# Altium footprint library Lib Marius.PcbLib: 393 footprints (part 5 of 25)
Each footprint in its own frame and in the unit in brackets; x right, y up, seen from the top. Pads: shape width x height; smd on the part's side, far side on the other; paste and mask are expansions set on the pad; w line width, h text height; cw(c..) or ccw(c..) is an arc to the next point about the centre after c.
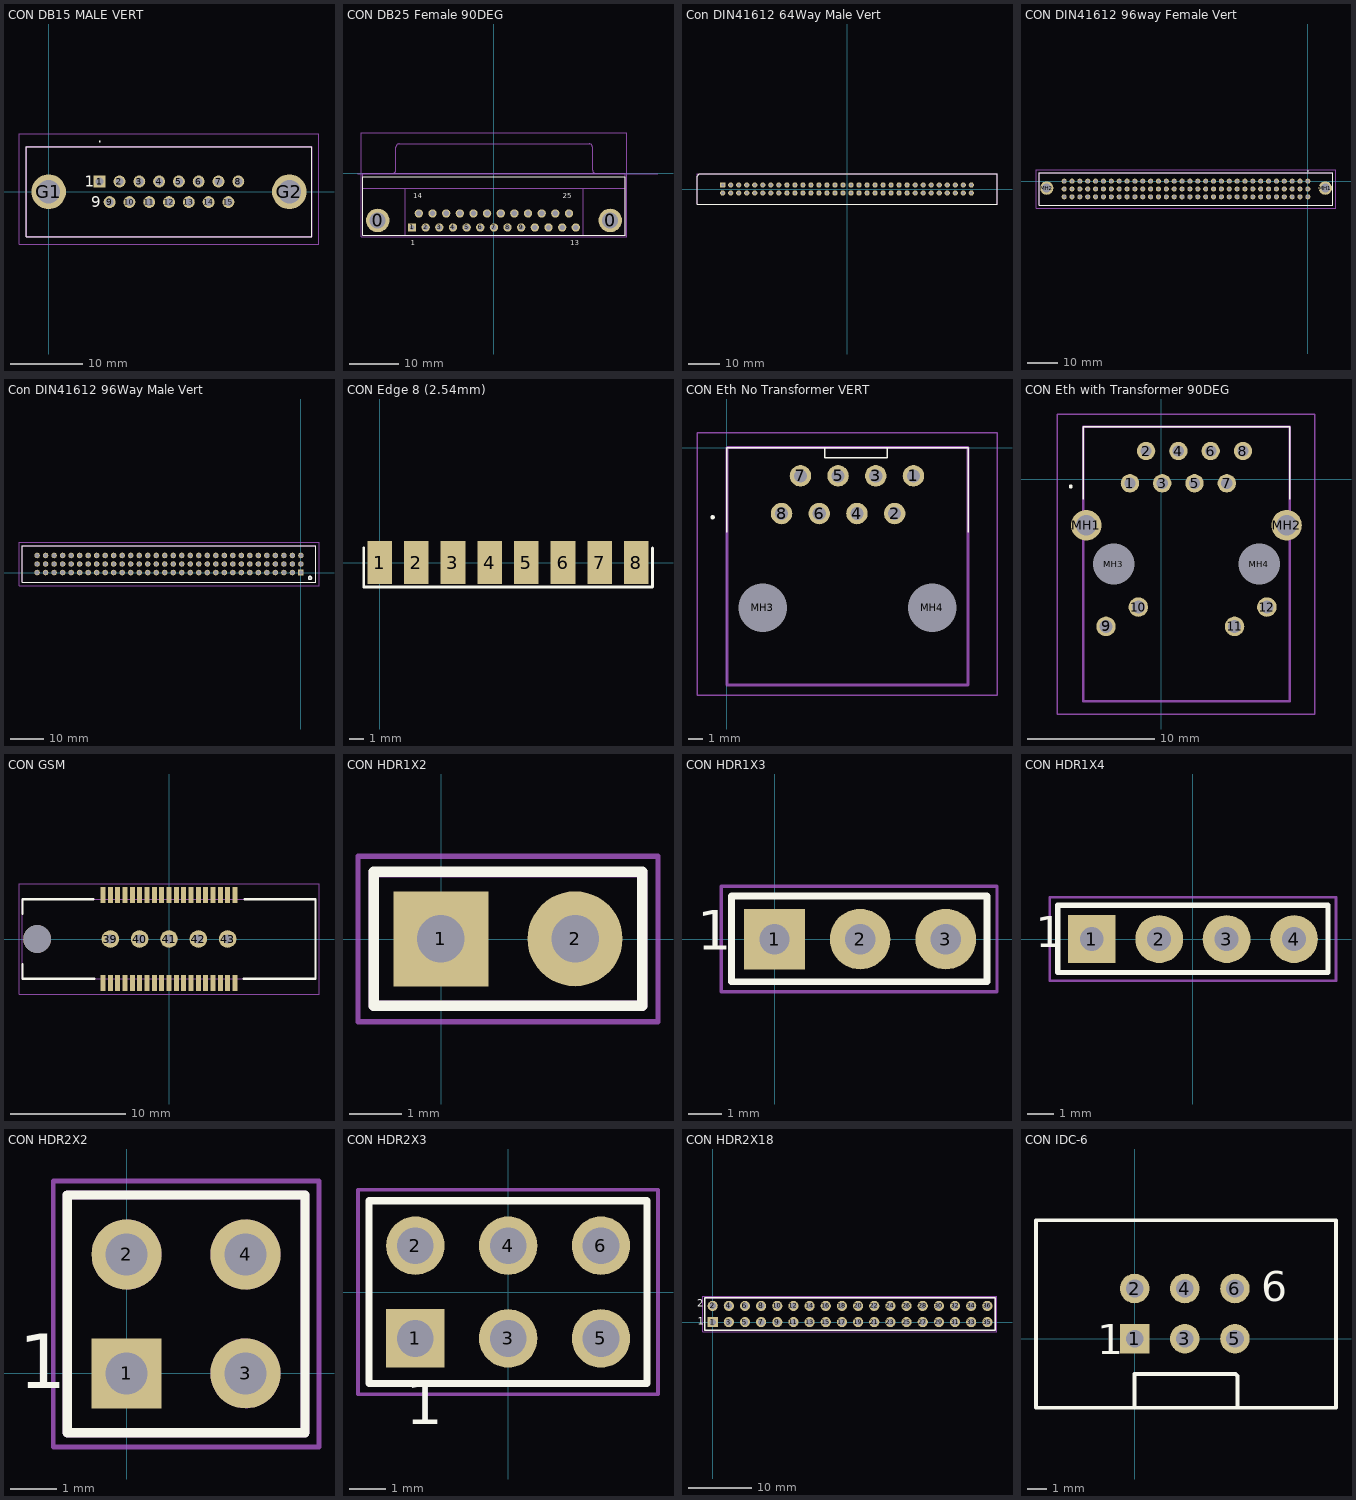
[diagram p4: the footprints below, top view; thin cyan lines are the x and y axes]

## CON DB15 MALE VERT [mm]
pads (17):
  rect 1.65x1.65 hole 1.1: 1(7.06,1.42)
  round 1.65 hole 1.1: 2(9.8,1.42) 3(12.54,1.42) 4(15.28,1.42) 5(18.02,1.42) 6(20.76,1.42) 7(23.5,1.42) 8(26.24,1.42) 9(8.43,-1.42) 10(11.17,-1.42) 11(13.91,-1.42) 12(16.65,-1.42) 13(19.39,-1.42) 14(22.13,-1.42) 15(24.87,-1.42)
  round 4.8 hole 3.2: G1(0,0) G2(33.3,0)
Top Overlay:
  lines w0.1: -3.1,-6.25 36.4,-6.25 36.4,6.25 -3.1,6.25 -3.1,-6.25 ; 7.06,6.92 ccw(c7.06,6.97) 7.06,7.02 ccw(c7.06,6.97) 7.06,6.92
  text "9" at 5.883,-2.119 h1.5
  text "1" at 4.991,0.706 h1.5
Bottom Overlay:
  text "1" at 5.486,0.694 h1.5
  text "9" at 6.849,-2.094 h1.5
Mechanical 13:
  lines w0.2: -3.1,-6.25 36.4,-6.25 36.4,6.25 -3.1,6.25 -3.1,-6.25
Mechanical 15:
  lines w0.1: -4.1,-7.25 37.4,-7.25 37.4,8.02 -4.1,8.02 -4.1,-7.25
3D body "09652616713.stp": height 12.65, standoff -3.75, extent -3.1,-5.865 36.4,6.635

## CON DB25 Female 90DEG [mm] "Connector; D Subminiature; 25 Position; Right Angle; Pitch 1.385 mm"
height 12.93
pads (27):
  round 4.76 hole 3.26: 0(-23.526,-9.5) 0(23.526,-9.5)
  rect 1.69x1.69 hole 1.09: 1(-16.566,-10.92)
  round 1.69 hole 1.09: 2(-13.805,-10.92) 3(-11.044,-10.92) 4(-8.283,-10.92) 5(-5.522,-10.92) 6(-2.761,-10.92) 7(0,-10.92) 8(2.761,-10.92) 9(5.522,-10.92) 10(8.283,-10.92) 11(11.044,-10.92) 12(13.805,-10.92) 13(16.566,-10.92) 14(-15.185,-8.08) 15(-12.424,-8.08) 16(-9.663,-8.08) 17(-6.902,-8.08) 18(-4.141,-8.08) 19(-1.38,-8.08) 20(1.381,-8.08) 21(4.142,-8.08) 22(6.903,-8.08) 23(9.664,-8.08) 24(12.425,-8.08) 25(15.186,-8.08)
Top Overlay:
  lines w0.2: -26.496,-12.5 26.604,-12.5 26.604,-0.7 -26.496,-0.7 -26.496,-12.5
  text "1" at -16.816,-14.475 h1
  text "13" at 15.441,-14.475 h1
  text "14" at -16.31,-4.975 h1
  text "25" at 13.936,-4.975 h1
  text ".Designator" at -16,-16.2 h1
Mechanical 1:
  lines w0.1: -27.5,-0.1 33.2,-0.1
  text "PCB Edge" at 29.3,0.1 h1
Mechanical 13:
  lines w0.1: -26.496,-3 26.604,-3 ; -20.541,0.005 ccw(c-20.541,0.7) -19.846,0.7 -19.846,5.3 ; -19.841,5.305 cw(c-19.146,5.305) -19.146,6 19.254,6 cw(c19.254,5.305) 19.949,5.305 ; -17.946,-12.5 -17.946,-3 ; 18.054,-12.5 18.054,-3 ; 19.954,5.3 19.954,0.7 ccw(c20.649,0.7) 20.649,0.005 ; -26.496,-12.5 -26.496,0 26.604,0 26.604,-12.5 -26.496,-12.5
  text "25" at 13.936,-4.975 h1
  text "14" at -16.31,-4.975 h1
  text "13" at 15.441,-14.475 h1
  text "1" at -16.816,-14.475 h1
Mechanical 15:
  lines w0.1: -26.8,-12.8 26.9,-12.8 26.9,8.2 -26.8,8.2 -26.8,-12.8
3D body "User Library-d-sub25 connector.step": height 12.57, standoff -4.58, extent -26.549,-12.573 26.491,7.927

## Con DIN41612 64Way Male Vert [mm] "64 Position Din41612 Connector Header, Male Pins Through Hole"
height 10.1
pads (64):
  rrect20% 1.65x1.65 hole 1: 1(-39.37,1.27)
  round 1.65 hole 1: 2(-36.83,1.27) 3(-34.29,1.27) 4(-31.75,1.27) 5(-29.21,1.27) 6(-26.67,1.27) 7(-24.13,1.27) 8(-21.59,1.27) 9(-19.05,1.27) 10(-16.51,1.27) 11(-13.97,1.27) 12(-11.43,1.27) 13(-8.89,1.27) 14(-6.35,1.27) 15(-3.81,1.27) 16(-1.27,1.27) 17(1.27,1.27) 18(3.81,1.27) 19(6.35,1.27) 20(8.89,1.27) 21(11.43,1.27) 22(13.97,1.27) 23(16.51,1.27) 24(19.05,1.27) 25(21.59,1.27) 26(24.13,1.27) 27(26.67,1.27) 28(29.21,1.27) 29(31.75,1.27) 30(34.29,1.27) 31(36.83,1.27) 32(39.37,1.27) 33(-39.37,-1.27) 34(-36.83,-1.27) 35(-34.29,-1.27) 36(-31.75,-1.27) 37(-29.21,-1.27) 38(-26.67,-1.27) 39(-24.13,-1.27) 40(-21.59,-1.27) 41(-19.05,-1.27) 42(-16.51,-1.27) 43(-13.97,-1.27) 44(-11.43,-1.27) 45(-8.89,-1.27) 46(-6.35,-1.27) 47(-3.81,-1.27) 48(-1.27,-1.27) 49(1.27,-1.27) 50(3.81,-1.27) 51(6.35,-1.27) 52(8.89,-1.27) 53(11.43,-1.27) 54(13.97,-1.27) 55(16.51,-1.27) 56(19.05,-1.27) 57(21.59,-1.27) 58(24.13,-1.27) 59(26.67,-1.27) 60(29.21,-1.27) 61(31.75,-1.27) 62(34.29,-1.27) 63(36.83,-1.27) 64(39.37,-1.27)
Top Overlay:
  lines w0.05: -47.5,-4.75 47.5,-4.75 47.5,4.75 -46.75,4.75 -47.5,4 -47.5,-4.75
Top Courtyard:
  lines w0.05: -47.5,-4.75 -47.5,4.75 47.5,4.75 47.5,-4.75 -47.5,-4.75
Top Assembly:
  lines w0.05: -47.5,-4.75 -47.5,4.75 47.5,4.75 47.5,-4.75 -47.5,-4.75
3D body "09021101020300_100072267MOD000B.STP": height 12, standoff -4, extent -47.023,-4.25 46.977,4.25

## CON DIN41612 96way Female Vert [mm]
pads (98):
  round 1.65 hole 1.1: A1(0,0) A2(-2.54,0) A3(-5.08,0) A4(-7.62,0) A5(-10.16,0) A6(-12.7,0) A7(-15.24,0) A8(-17.78,0) A9(-20.32,0) A10(-22.86,0) A11(-25.4,0) A12(-27.94,0) A13(-30.48,0) A14(-33.02,0) A15(-35.56,0) A16(-38.1,0) A17(-40.64,0) A18(-43.18,0) A19(-45.72,0) A20(-48.26,0) A21(-50.8,0) A22(-53.34,0) A23(-55.88,0) A24(-58.42,0) A25(-60.96,0) A26(-63.5,0) A27(-66.04,0) A28(-68.58,0) A29(-71.12,0) A30(-73.66,0) A31(-76.2,0) A32(-78.74,0) B1(0,-2.54) B2(-2.54,-2.54) B3(-5.08,-2.54) B4(-7.62,-2.54) B5(-10.16,-2.54) B6(-12.7,-2.54) B7(-15.24,-2.54) B8(-17.78,-2.54) B9(-20.32,-2.54) B10(-22.86,-2.54) B11(-25.4,-2.54) B12(-27.94,-2.54) B13(-30.48,-2.54) B14(-33.02,-2.54) B15(-35.56,-2.54) B16(-38.1,-2.54) B17(-40.64,-2.54) B18(-43.18,-2.54) B19(-45.72,-2.54) B20(-48.26,-2.54) B21(-50.8,-2.54) B22(-53.34,-2.54) B23(-55.88,-2.54) B24(-58.42,-2.54) B25(-60.96,-2.54) B26(-63.5,-2.54) B27(-66.04,-2.54) B28(-68.58,-2.54) B29(-71.12,-2.54) B30(-73.66,-2.54) B31(-76.2,-2.54) B32(-78.74,-2.54) C1(0,-5.08) C2(-2.54,-5.08) C3(-5.08,-5.08) C4(-7.62,-5.08) C5(-10.16,-5.08) C6(-12.7,-5.08) C7(-15.24,-5.08) C8(-17.78,-5.08) C9(-20.32,-5.08) C10(-22.86,-5.08) C11(-25.4,-5.08) C12(-27.94,-5.08) C13(-30.48,-5.08) C14(-33.02,-5.08) C15(-35.56,-5.08) C16(-38.1,-5.08) C17(-40.64,-5.08) C18(-43.18,-5.08) C19(-45.72,-5.08) C20(-48.26,-5.08) C21(-50.8,-5.08) C22(-53.34,-5.08) C23(-55.88,-5.08) C24(-58.42,-5.08) C25(-60.96,-5.08) C26(-63.5,-5.08) C27(-66.04,-5.08) C28(-68.58,-5.08) C29(-71.12,-5.08) C30(-73.66,-5.08) C31(-76.2,-5.08) C32(-78.74,-5.08)
  round 4.35 hole 2.9: MH1(5.63,-2.24) MH2(-84.37,-2.24)
Top Overlay:
  lines w0.1: -86.83,-7.79 8.09,-7.79 8.09,2.71 -86.83,2.71 -86.83,-7.79
  lines w0.2: 0,3.2 ccw(c0,3.3) 0,3.4 ccw(c0,3.3) 0,3.2
Mechanical 13:
  lines w0.2: -86.83,-7.79 8.09,-7.79 8.09,2.71 -86.83,2.71 -86.83,-7.79
Mechanical 15:
  lines w0.1: -87.83,-8.79 9.09,-8.79 9.09,3.71 -87.83,3.71 -87.83,-8.79
3D body "09032962824.stp": height 11.63, standoff -2.87, extent -86.82,-7.787 8.08,2.713

## Con DIN41612 96Way Male Vert [mm]
pads (96):
  rect 1.65x1.65 hole 1.1: A1(0,0)
  round 1.65 hole 1.1: A2(-2.54,0) A3(-5.08,0) A4(-7.62,0) A5(-10.16,0) A6(-12.7,0) A7(-15.24,0) A8(-17.78,0) A9(-20.32,0) A10(-22.86,0) A11(-25.4,0) A12(-27.94,0) A13(-30.48,0) A14(-33.02,0) A15(-35.56,0) A16(-38.1,0) A17(-40.64,0) A18(-43.18,0) A19(-45.72,0) A20(-48.26,0) A21(-50.8,0) A22(-53.34,0) A23(-55.88,0) A24(-58.42,0) A25(-60.96,0) A26(-63.5,0) A27(-66.04,0) A28(-68.58,0) A29(-71.12,0) A30(-73.66,0) A31(-76.2,0) A32(-78.74,0) B1(0,2.54) B2(-2.54,2.54) B3(-5.08,2.54) B4(-7.62,2.54) B5(-10.16,2.54) B6(-12.7,2.54) B7(-15.24,2.54) B8(-17.78,2.54) B9(-20.32,2.54) B10(-22.86,2.54) B11(-25.4,2.54) B12(-27.94,2.54) B13(-30.48,2.54) B14(-33.02,2.54) B15(-35.56,2.54) B16(-38.1,2.54) B17(-40.64,2.54) B18(-43.18,2.54) B19(-45.72,2.54) B20(-48.26,2.54) B21(-50.8,2.54) B22(-53.34,2.54) B23(-55.88,2.54) B24(-58.42,2.54) B25(-60.96,2.54) B26(-63.5,2.54) B27(-66.04,2.54) B28(-68.58,2.54) B29(-71.12,2.54) B30(-73.66,2.54) B31(-76.2,2.54) B32(-78.74,2.54) C1(0,5.08) C2(-2.54,5.08) C3(-5.08,5.08) C4(-7.62,5.08) C5(-10.16,5.08) C6(-12.7,5.08) C7(-15.24,5.08) C8(-17.78,5.08) C9(-20.32,5.08) C10(-22.86,5.08) C11(-25.4,5.08) C12(-27.94,5.08) C13(-30.48,5.08) C14(-33.02,5.08) C15(-35.56,5.08) C16(-38.1,5.08) C17(-40.64,5.08) C18(-43.18,5.08) C19(-45.72,5.08) C20(-48.26,5.08) C21(-50.8,5.08) C22(-53.34,5.08) C23(-55.88,5.08) C24(-58.42,5.08) C25(-60.96,5.08) C26(-63.5,5.08) C27(-66.04,5.08) C28(-68.58,5.08) C29(-71.12,5.08) C30(-73.66,5.08) C31(-76.2,5.08) C32(-78.74,5.08)
Top Overlay:
  circle w0.5: c2.7,-1.6 r0.424
  lines w0.1: -83.12,-2.96 -83.12,8.04 4.38,8.04 4.38,-2.96 -83.12,-2.96
Mechanical 13:
  lines w0.2: -83.12,-2.96 -83.12,8.04 4.38,8.04 4.38,-2.96 -83.12,-2.96
Mechanical 15:
  lines w0.1: -84.12,-3.96 -84.12,9.04 5.38,9.04 5.38,-3.96 -84.12,-3.96
3D body "09031962922.stp": height 13.02, standoff -2.98, extent -86.37,-2.96 7.63,8.04

## CON Edge 8 (2.54mm) [mm] "Edge connector 8 pin, 2.54mm"
pads (8):
  rect 1.7x3 smd: 1(0,0) 2(2.54,0) 3(5.08,0) 4(7.62,0) 5(10.16,0) 6(12.7,0) 7(15.24,0) 8(17.78,0)
Top Overlay:
  lines w0.2: -1.1,1 -1.1,-1.7 18.9,-1.7 18.9,1

## CON Eth No Transformer VERT [mm] "Ethernet Connector"
height 12
pads (10):
  round 1.446 hole 0.89: 1(12.575,-1.91) 2(11.305,-4.45) 3(10.035,-1.91) 4(8.765,-4.45) 5(7.495,-1.91) 6(6.225,-4.45) 7(4.955,-1.91) 8(3.685,-4.45)
  round 1.625 hole 3.25 unplated: MH3(2.415,-10.8) MH4(13.845,-10.8)
Top Overlay:
  lines w0.1: 0,-5.7 0,0 16.26,0 16.26,-5.7 ; 6.4,0 6.6,0 6.6,-0.7 10.8,-0.7 10.8,0
  lines w0.2: -1.015,-4.7 cw(c-0.965,-4.7) -0.915,-4.7 cw(c-0.965,-4.7) -1.015,-4.7
Top 3D Body (Mech10):
  lines w0.2: 0,-16 16.26,-16 16.26,0 0,0 0,-16
Mechanical 15:
  lines w0.1: -2.015,-16.7 -2.015,1 18.205,1 18.205,-16.7 -2.015,-16.7

## CON Eth with Transformer 90DEG [mm] "Ethernet with LED and transformer"
height 12
pads (16):
  round 1.446 hole 0.89: 1(-2.482,-0.31) 2(-1.212,2.23) 3(0.058,-0.31) 4(1.328,2.23) 5(2.598,-0.31) 6(3.868,2.23) 7(5.138,-0.31) 8(6.408,2.23)
  round 1.53 hole 1.02: 9(-4.362,-11.56) 10(-1.822,-10.04) 11(5.748,-11.56) 12(8.288,-10.04)
  round 2.4 hole 1.6: MH1(-5.912,-3.61) MH2(9.838,-3.61)
  round 1.625 hole 3.25 unplated: MH3(-3.752,-6.66) MH4(7.678,-6.66)
Top Overlay:
  lines w0.1: -6.167,-1.56 -6.167,4.14 10.093,4.14 10.093,-1.56
  lines w0.2: -7.182,-0.56 cw(c-7.132,-0.56) -7.082,-0.56 cw(c-7.132,-0.56) -7.182,-0.56
Top 3D Body (Mech10):
  lines w0.2: -6.167,-17.45 10.093,-17.45 10.093,4.14 -6.167,4.14 -6.167,-17.45
Mechanical 15:
  lines w0.1: -8.182,-18.45 -8.182,5.14 12.038,5.14 12.038,-18.45 -8.182,-18.45
3D body "J0026D01BNL.stp": height 13.94, standoff -5, extent -6.612,-17.49 10.532,4.1

## CON GSM [mil] "Connector, MICTOR_38"
height 240.16
pads (44):
  rect 17x55.12 smd mask+1.97: 1(-225,-150) 2(-225,150) 3(-200,-150) 4(-200,150) 5(-175,-150) 6(-175,150) 7(-150,-150) 8(-150,150) 9(-125,-150) 10(-125,150) 11(-100,-150) 12(-100,150) 13(-75,-150) 14(-75,150) 15(-50,-150) 16(-50,150) 17(-25,-150) 18(-25,150) 19(0,-150) 20(0,150) 21(25,-150) 22(25,150) 23(50,-150) 24(50,150) 25(75,-150) 26(75,150) 27(100,-150) 28(100,150) 29(125,-150) 30(125,150) 31(150,-150) 32(150,150) 33(175,-150) 34(175,150) 35(200,-150) 36(200,150) 37(225,-150) 38(225,150)
  round 60 hole 32: 39(-200,0) 40(-100,0) 41(0,0) 42(100,0) 43(200,0)
  round 94.49 hole 94.49 unplated: " "(-450,0)
Top Overlay:
  lines w7.9: -500,-86.6 -500,-136 -253.91,-136 ; -500,86.6 -500,136 -257.91,136 ; 253.91,-136 500,-136 500,136 257.91,136
Mechanical 13:
  lines w3.94: -500,-136 500,-136 500,136 -500,136 -500,-136
  text ".Designator" at -460.63,188.98 h31.5
Mechanical 15:
  lines w3.94: -511.81,-188.98 511.81,-188.98 511.81,188.98 -511.81,188.98 -511.81,-188.98
3D body "SCTR380541.stp": height 240.16, standoff -102.84, extent -500.02,-172.24 499.98,170.76

## CON HDR1X2 [mm] "onnector, Header, Vertical: Lead Span 2.54mm; Lead Width 0.52; Pin Pitch 2.54; 2 X 1 Pins"
height 8.4
pads (2):
  rect 1.8x1.8 hole 0.9: 1(-0.01,0.007)
  round 1.8 hole 0.9: 2(2.53,0.007)
Top Overlay:
  lines w0.2: -1.28,-1.263 3.8,-1.263 3.8,1.277 -1.28,1.277 -1.28,-1.263
  text ".Designator" at -1.57,2.07 h1
Mechanical 7:
  circle w0.2: c2.53,0.007 r0.648
  lines w0.2: -1.28,-1.263 -1.28,1.27 3.8,1.27 3.8,-1.263 -1.28,-1.263 ; -0.645,-0.628 0.625,-0.628 0.625,0.642 -0.645,0.642 -0.645,-0.628
Mechanical 13:
  lines w0.1: -1.279,-1.261 3.8,-1.261 3.8,1.27 -1.279,1.27 -1.279,-1.261
Mechanical 15:
  lines w0.1: -1.58,-1.563 4.1,-1.563 4.1,1.57 -1.58,1.57 -1.58,-1.563
3D body "1x2HDR.stp": height 8.41, standoff -2.52, extent -1.279,-1.261 3.801,1.279

## CON HDR1X3 [mm] "Connector, Header, Vertical: Lead Span 2.54mm; Lead Width 0.52; Pin Pitch 2.54; 3 X 1 Pins"
height 8.4
pads (3):
  rect 1.8x1.8 hole 0.9: 1(0,0)
  round 1.8 hole 0.9: 2(2.54,0) 3(5.08,0)
Top Overlay:
  lines w0.2: -1.28,-1.263 6.3,-1.263 6.3,1.277 -1.28,1.277 -1.28,-1.263
  text "1" at -2.3,-0.7 h2
  text ".Designator" at -0.6,2 h1
Mechanical 13:
  lines w0.1: -1.279,-1.261 6.3,-1.261 6.3,1.27 -1.279,1.27 -1.279,-1.261
  text "1" at -2,-0.7 h2
Mechanical 15:
  lines w0.1: -1.58,-1.563 6.6,-1.563 6.6,1.57 -1.58,1.57 -1.58,-1.563
3D body "1x2HDR.stp": height 8.41, standoff -2.52, extent -1.279,-1.261 3.801,1.279
3D body "1x2HDR.stp": height 8.41, standoff -2.52, extent 1.261,-1.261 6.341,1.279

## CON HDR1X4 [mm] "Connector, Header, Vertical: Lead Span 2.54mm; Lead Width 0.52; Pin Pitch 2.54; 4 X 1 Pins"
height 8.4
pads (4):
  rect 1.8x1.8 hole 0.9: 1(-3.81,0)
  round 1.8 hole 0.9: 2(-1.27,0) 3(1.27,0) 4(3.81,0)
Top Overlay:
  lines w0.2: -5.09,-1.261 5.09,-1.261 5.09,1.27 -5.09,1.27 -5.09,-1.261
  text "1" at -5.91,-0.7 h2
  text ".Designator" at -4.41,2 h1
Mechanical 13:
  lines w0.1: -5.089,-1.261 5.09,-1.261 5.09,1.27 -5.089,1.27 -5.089,-1.261
  text "1" at -5.81,-0.7 h2
Mechanical 15:
  lines w0.1: -5.39,-1.563 5.39,-1.563 5.39,1.57 -5.39,1.57 -5.39,-1.563
3D body "1x2HDR.stp": height 8.41, standoff -2.52, extent -5.089,-1.261 -0.009,1.279
3D body "1x2HDR.stp": height 8.41, standoff -2.52, extent -0.009,-1.261 5.071,1.279

## CON HDR2X2 [mm] "Connector, Header, Vertical: Lead Span 2.54mm; Lead Width 0.52; Pin Pitch 2.54; 2 X 2 Pins"
height 9
pads (4):
  rect 1.5x1.5 hole 0.9: 1(0,0)
  round 1.5 hole 0.9: 2(0,2.54) 3(2.54,0) 4(2.54,2.54)
Top Overlay:
  lines w0.2: -1.27,-1.27 3.81,-1.27 3.81,3.81 -1.27,3.81 -1.27,-1.27
  text "1" at -2.3,-0.7 h2
  text ".Designator" at -1.57,4.67 h1.5
Mechanical 7:
  circle w0.2: c2.54,0 r0.648
  circle w0.2: c2.54,2.54 r0.648
  circle w0.2: c0,2.54 r0.648
  lines w0.2: -1.27,-1.27 3.81,-1.27 3.81,3.81 -1.27,3.81 -1.27,-1.27 ; -0.635,-0.635 -0.635,0.635 0.635,0.635 0.635,-0.635 -0.635,-0.635
Mechanical 13:
  lines w0.1: -1.27,-1.273 -1.27,3.807 3.81,3.807 3.81,-1.27 -1.27,-1.27
Mechanical 15:
  lines w0.1: -1.57,-1.573 -1.57,4.11 4.11,4.11 4.11,-1.573 -1.57,-1.573
3D body "HDR2X2.stp": height 8.41, standoff -2.51, extent -1.27,-1.273 3.81,3.807

## CON HDR2X3 [mm] "Connector, Header, Vertical: Lead Span 2.54mm; Lead Width 0.52; Pin Pitch 2.54; 2 X 3 Pins"
height 9
pads (6):
  rect 1.6x1.6 hole 1: 1(-2.54,-1.27)
  round 1.6 hole 1: 2(-2.54,1.27) 3(0,-1.27) 4(0,1.27) 5(2.54,-1.27) 6(2.54,1.27)
Top Overlay:
  lines w0.2: -3.81,-0.635 -3.81,2.5 3.8,2.5 3.8,-2.5 -3.81,-2.5 -3.81,0.635
  text "1" at -2.8,-4 h2
  text ".Designator" at -4.1,3.3 h1.5
Mechanical 13:
  lines w0.1: -3.81,-2.5 3.8,-2.5 3.8,2.5 -3.81,2.5 -3.81,-2.5
Mechanical 15:
  lines w0.1: -4.11,-2.8 4.1,-2.8 4.1,2.8 -4.11,2.8 -4.11,-2.8
3D body "SNT-100-XX-X-H.step": height 15.42, standoff 1.45, extent -1.258,-2.545 1.285,2.535
3D body: height 0, standoff 0, extent 5.03,-3.65 10.11,3.97
3D body "TSW-103-08-X-D.step": height 8.41, standoff -5.05, extent -3.81,-2.54 3.81,2.54

## CON HDR2X18 [mm] "Connector, Header, Vertical, 2.54mm pitch, 2 X 18 pins"
pads (36):
  rect 1.6x1.6 hole 1: 1(0,0)
  round 1.6 hole 1: 2(0,2.54) 3(2.54,0) 4(2.54,2.54) 5(5.08,0) 6(5.08,2.54) 7(7.62,0) 8(7.62,2.54) 9(10.16,0) 10(10.16,2.54) 11(12.7,0) 12(12.7,2.54) 13(15.24,0) 14(15.24,2.54) 15(17.78,0) 16(17.78,2.54) 17(20.32,0) 18(20.32,2.54) 19(22.86,0) 20(22.86,2.54) 21(25.4,0) 22(25.4,2.54) 23(27.94,0) 24(27.94,2.54) 25(30.48,0) 26(30.48,2.54) 27(33.02,0) 28(33.02,2.54) 29(35.56,0) 30(35.56,2.54) 31(38.1,0) 32(38.1,2.54) 33(40.64,0) 34(40.64,2.54) 35(43.18,0) 36(43.18,2.54)
Top Overlay:
  lines w0.2: -1.27,-1.27 44.4,-1.27 44.4,3.81 -1.27,3.81 -1.27,-1.27
  text "2" at -2.465,2.02 h2
  text "1" at -2.34,-0.805 h2
Mechanical 13:
  lines w0.1: -1.27,-1.27 -1.27,3.81 44.5,3.81 44.4,3.81 44.4,-1.27 -1.27,-1.27
Mechanical 15:
  lines w0.1: -1.59,-1.53 -1.59,4.07 9.21,4.07 44.7,4.07 44.7,-1.53 -1.59,-1.53

## CON IDC-6 [mm] "Connector; IDC; 5x2 Position"
pads (6):
  rect 1.5x1.5 hole 0.9: 1(0,0)
  round 1.5 hole 0.9: 2(0,2.54) 3(2.54,0) 4(2.54,2.54) 5(5.08,0) 6(5.08,2.54)
Top Overlay:
  lines w0.2: 0,-3.4 0,-1.8 5.1,-1.8 5.2,-1.9 5.2,-3.4 ; -5,-3.5 10.2,-3.5 10.2,6 -5,6 -5,-3.5
  text "1" at -1.9,-0.8 h1.52
  text "6" at 6.4,1.9 h1.52
Bottom Overlay:
  text "5" at 7.1,-0.7 h1.27
  text "6" at 7.1,2 h1.27
  text "1" at -1.5,-0.6 h1.27
  text "2" at -1.2,2 h1.27
3D body "IDC-3x2.step": height 9.17, standoff -4.29, extent -5,-3.5 10.24,5.974